# Altium footprint library PcbLib1.PcbLib: 3 footprints
Each footprint in its own frame and in the unit in brackets; x right, y up, seen from the top. Pads: shape width x height; smd on the part's side, far side on the other; paste and mask are expansions set on the pad; w line width, h text height; cw(c..) or ccw(c..) is an arc to the next point about the centre after c.
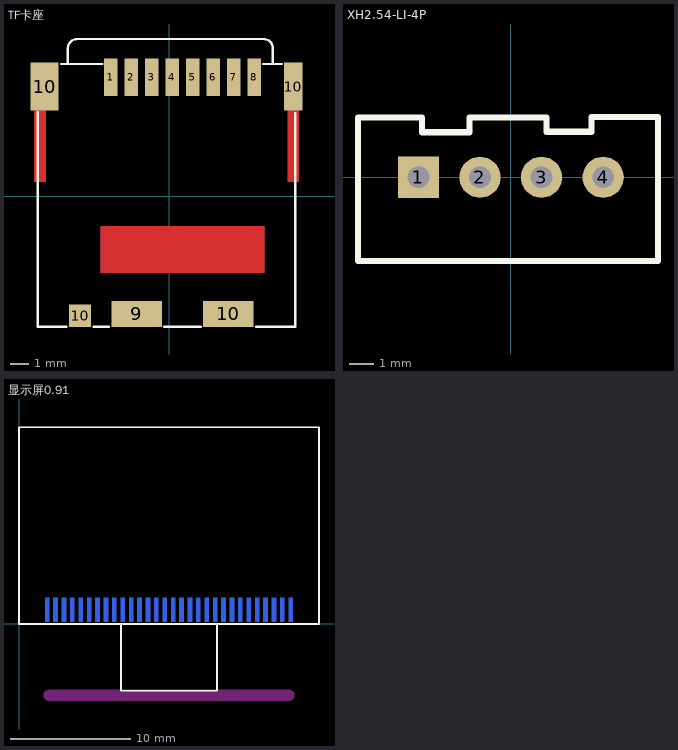
[diagram p0: the footprints below, top view; thin cyan lines are the x and y axes]

## TF卡座 [mm]
pads (13):
  rect 0.7x2 smd: 1(-3.125,6.4) 2(-2.025,6.4) 3(-0.925,6.4) 4(0.175,6.4) 5(1.275,6.4) 6(2.375,6.4) 7(3.475,6.4) 8(4.575,6.4)
  rect 2.7x1.4 smd: 9(-1.725,-6.3) 10(3.175,-6.3)
  rect 1.5x2.6 smd: 10(-6.675,5.9)
  rect 1.2x1.2 smd: 10(-4.775,-6.4)
  rect 1x2.6 smd: 10(6.675,5.9)
Top Layer:
  pour cut-out: 6.975,0.8 6.375,0.8 6.375,4.6 6.975,4.6
  pour cut-out: -6.625,0.8 -7.225,0.8 -7.225,4.6 -6.625,4.6
  pour cut-out: 5.125,-1.6 5.125,-4.1 -3.675,-4.1 -3.675,-1.6
Top Overlay:
  lines w0.127: -7.037,-7 -7.037,4.52 ; -7.028,-7 -5.513,-7 ; -5.792,7.111 -3.582,7.111 ; -5.425,7.111 -5.425,7.95 cw(c-4.925,7.95) -4.925,8.45 5.075,8.45 cw(c5.075,7.95) 5.575,7.95 5.575,7.111 ; -4.039,-7 -3.227,-7 ; -0.255,-7 1.701,-7 ; 4.673,-7 6.772,-7 6.772,4.47 ; 5.054,7.111 6.044,7.111
Mechanical 15:
  region: 6.975,4.6 6.375,4.6 6.375,0.8 6.975,0.8
  region: -6.625,4.6 -7.225,4.6 -7.225,0.8 -6.625,0.8
  region: 5.125,-1.6 -3.675,-1.6 -3.675,-4.1 5.125,-4.1
3D body "DM3CS-SF.stp": height 1.98, standoff 0.05, extent -7.028,-7 6.772,7.1

## XH2.54-LI-4P [mm] "接插件，4P  淘宝ID:黄晶宝石   店铺网址:https://shop463601444.taobao.com"
pads (4):
  rect 1.7x1.7 hole 0.9: 1(-3.81,0)
  round 1.7 hole 0.9: 2(-1.27,0) 3(1.27,0) 4(3.81,0)
Top Overlay:
  lines w0.254: -6.299,-3.454 6.071,-3.454 6.071,2.489 3.327,2.489 3.327,1.88 1.473,1.88 1.473,2.464 -1.702,2.464 -1.702,1.854 -3.658,1.854 -3.658,2.464 -6.299,2.464 -6.299,-3.454
3D body "XH2.54-4P.STEP": height 7.03, standoff -2.47, extent -6.31,-3.3 6.31,2.4

## 显示屏0.91 [mm]
height 2.4
pads (30):
  rect 0.35x2 smd far side: 1(2.349,1.173) 2(3.049,1.173) 3(3.749,1.173) 4(4.449,1.173) 5(5.149,1.173) 6(5.849,1.173) 7(6.549,1.173) 8(7.249,1.173) 9(7.949,1.173) 10(8.649,1.173) 11(9.349,1.173) 12(10.049,1.173) 13(10.749,1.173) 14(11.449,1.173) 15(12.149,1.173) 16(12.849,1.173) 17(13.549,1.173) 18(14.249,1.173) 19(14.949,1.173) 20(15.649,1.173) 21(16.349,1.173) 22(17.049,1.173) 23(17.749,1.173) 24(18.449,1.173) 25(19.149,1.173) 26(19.849,1.173) 27(20.549,1.173) 28(21.249,1.173) 29(21.949,1.173) 30(22.649,1.173)
Top Overlay:
  lines w0.127: 8.5,0 8.5,-5.55 16.5,-5.55 16.5,0 ; 0,0 25,0 25,16.4 0,16.4 0,0
Bottom Overlay:
  circle w0.1: c20.499,-3.525 r0.4
  circle w0.1: c4.499,-3.525 r0.4
  lines w0.1: 1.502,0.225 23.499,0.225 ; 6.499,-5.652 1.499,-2.775 1.499,-0.775 1.499,1.225 1.499,2.225 23.499,2.225 23.499,1.225 23.499,-0.775 ; 18.499,-5.652 23.499,-2.775 23.499,-0.14
Keep-Out Layer:
  board cut-out: 2.489,-6.401 2.49,-6.401 2.491,-6.401 2.492,-6.401 22.508,-6.401 22.509,-6.401 22.51,-6.401 22.511,-6.401 22.512,-6.401 22.6,-6.398 22.761,-6.327 22.883,-6.201 22.949,-6.038 22.949,-5.95 22.949,-5.863 22.883,-5.7 22.761,-5.574 22.6,-5.503 22.512,-5.5 22.51,-5.5 22.509,-5.5 22.508,-5.5 2.492,-5.5 2.491,-5.5 2.49,-5.5 2.489,-5.5 2.491,-5.5 2.493,-5.5 2.495,-5.5 2.497,-5.5 2.499,-5.5 2.489,-5.5 2.401,-5.502 2.239,-5.572 2.115,-5.698 2.048,-5.862 2.048,-6.039 2.115,-6.202 2.239,-6.329 2.401,-6.399
  lines w0.1: 2.492,-6.35 4.956,-6.35 ; 2.492,-5.55 5.032,-5.55 ; 2.499,-6.35 cw(c2.499,-5.95) 2.499,-5.55 ; 4.499,-6.35 20.501,-6.35 ; 4.499,-5.55 20.502,-5.55 ; 20.399,-5.55 22.508,-5.55 ; 20.45,-6.35 22.508,-6.35 ; 22.501,-6.35 ccw(c22.499,-5.95) 22.502,-5.55
3D body: height 0.3, standoff 0, extent 8.501,-5.55 16.499,-0.001
3D body: height 1.6, standoff 0, extent 0.001,0.001 24.999,16.399